# Altium schematic symbol library SL_PowerManagement.SchLib: 18 symbols
Pins are listed as number, name and electrical type; pins without a type are passive.

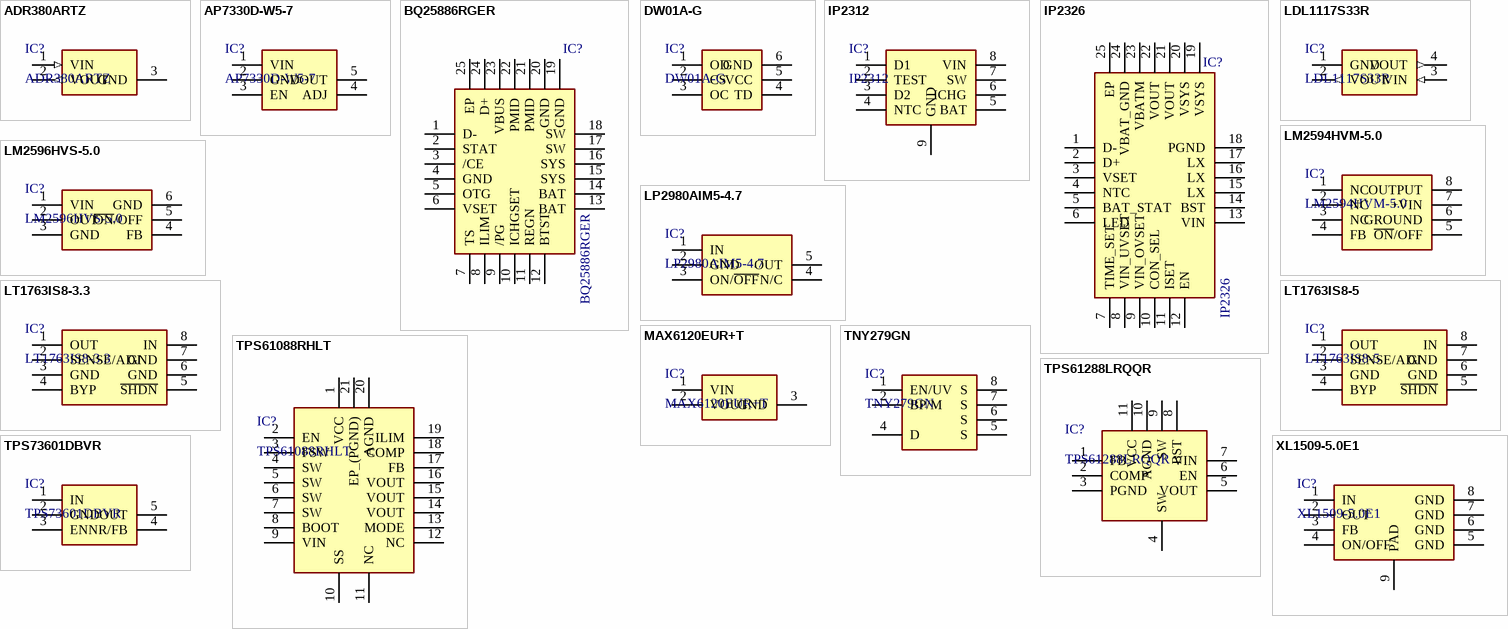
[diagram p0: symbols ADR380ARTZ to XL1509-5.0E1]

## ADR380ARTZ
designator IC?
Integrated Circuit, RVS, In: 2.7-12V, Out: 2.048V, 5mA; Manufacturer_Name: Analog Devices; Manufacturer_Part_Number: ADR380ARTZ-REEL7; Datasheet Link: http://www.analog.com/media/en/technical-documentation/data-sheets/ADR380_381.pdf; Height: 1.12mm; Mouser Part Number: 584-ADR380ARTZ-R7; Mouser Price/Stock: https://www.mouser.co.uk/ProductDetail/Analog-Devices/ADR380ARTZ-REEL7?qs=WIvQP4zGani3pEpMYJ%2Fd2A%3D%3D; Arrow Part Number: ADR380ARTZ-REEL7; Arrow Price/Stock: https://www.arrow.com/en/products/adr380artz-reel7/analog-devices?region=nac
footprint SOT96P237X112-3N
pins: 1 VIN (in), 2 VOUT (out), 3 GND (power)

## AP7330D-W5-7
designator IC?
Integrated Circuit, LDO, In: 1.8-5.5V, Out: 1-4.5V, 0.3A; Manufacturer_Name: Diodes Incorporated; Datasheet Link: https://www.diodes.com//assets/Datasheets/AP7330.pdf; Height: 1.4mm; Manufacturer_Part_Number: AP7330D-W5-7; Mouser Part Number: 621-AP7330D-W5-7; Mouser Price/Stock: https://www.mouser.co.uk/ProductDetail/Diodes-Incorporated/AP7330D-W5-7?qs=W0yvOO0ixfEgWU84Pc6G9Q%3D%3D; Arrow Part Number: AP7330D-W5-7; Arrow Price/Stock: https://www.arrow.com/en/products/ap7330d-w5-7/diodes-incorporated?utm_currency=USD&region=nac
footprint SOT95P285X140-5N
pins: 1 VIN, 2 GND, 3 EN, 4 ADJ, 5 VOUT

## BQ25886RGER
designator IC?
Integrated Circuit, 2 Cell battery charger; Manufacturer_Name: Texas Instruments; Datasheet Link: http://www.ti.com/lit/gpn/BQ25886; Height: 1mm; Manufacturer_Part_Number: BQ25886RGER; Mouser Part Number: 595-BQ25886RGER; Mouser Price/Stock: https://www.mouser.co.uk/ProductDetail/Texas-Instruments/BQ25886RGER?qs=mAH9sUMRCttbI1j7uI64xQ%3D%3D; Arrow Part Number: BQ25886RGER; Arrow Price/Stock: https://www.arrow.com/en/products/bq25886rger/texas-instruments?region=nac
footprint QFN50P400X400X100-25N-D
pins: 1 D-, 2 STAT, 3 /CE, 4 GND, 5 OTG, 6 VSET, 7 TS, 8 ILIM, 9 /PG, 10 ICHGSET, 11 REGN, 12 BTST, 13 BAT, 14 BAT, 15 SYS, 16 SYS, 17 SW, 18 SW, 19 GND, 20 GND, 21 PMID, 22 PMID, 23 VBUS, 24 D+, 25 EP

## DW01A-G
designator IC?
Integrated Circuit; Manufacturer_Name: Fortune Semiconductor Corporation; Datasheet Link: http://acoptex.com/uploads/DW01A.pdf; Height: 1.35mm; Manufacturer_Part_Number: DW01A-G
footprint SOT95P280X135-6N
pins: 1 OD, 2 CS, 3 OC, 4 TD, 5 VCC, 6 GND

## IP2312
designator IC?
Integrated Circuit, 1 Cell battery charger; Manufacturer_Name: INJOINIC; Datasheet Link: http://www.injoinic.com/wwwroot/uploads/files/20230913/623558e526750db62e25e32800f94a6b.pdf; Height: 1.65mm; Manufacturer_Part_Number: IP2312
footprint SOIC127P600X165-9N
pins: 1 D1, 2 TEST, 3 D2, 4 NTC, 5 BAT, 6 ICHG, 7 SW, 8 VIN, 9 GND

## IP2326
designator IC?
Integrated Circuit, 2/3 Cell battery charger; Manufacturer_Name: Texas Instruments; Datasheet Link: https://done.land/assets/files/ip2326_datasheet.pdf; Height: 1mm; Manufacturer_Part_Number: IP2326; Arrow Part Number: IP2326
footprint QFN50P400X400X100-25N-D
pins: 1 D-, 2 D+, 3 VSET, 4 NTC, 5 BAT_STAT, 6 LED, 7 TIME_SET, 8 VIN_UVSET, 9 VIN_OVSET, 10 CON_SEL, 11 ISET, 12 EN, 13 VIN, 14 BST, 15 LX, 16 LX, 17 LX, 18 PGND, 19 VSYS, 20 VSYS, 21 VOUT, 22 VOUT, 23 VBATM, 24 VBAT_GND, 25 EP

## LDL1117S33R
designator IC?
Integrated Circuit, LDO, In: 2.5-18V, Out: 3.3V, 1.2A; Manufacturer_Name: STMicroelectronics; Datasheet Link: https://www.st.com/resource/en/datasheet/ldl1117.pdf; Height: 1.8mm; Manufacturer_Part_Number: LDL1117S33R; Mouser Part Number: 511-LDL1117S33R; Mouser Price/Stock: https://www.mouser.co.uk/ProductDetail/STMicroelectronics/LDL1117S33R?qs=AQlKX63v8Rt9Bf6AWSrbFg%3D%3D; Arrow Part Number: LDL1117S33R; Arrow Price/Stock: https://www.arrow.com/en/products/ldl1117s33r/stmicroelectronics?utm_currency=USD&region=europe
footprint SOT230P700X180-4N
pins: 1 GND (power), 2 VOUT (out), 3 VIN (in), 4 VOUT (out)

## LM2594HVM-5.0
designator IC?
Texas Instruments, DC/DC - Step Down, In: 4.5-57V, Out: 5V, 1.5A; Datasheet Link: http://www.ti.com/lit/ds/symlink/lm2594.pdf; Height: 1.75mm; Manufacturer_Name: Texas Instruments; Manufacturer_Part_Number: LM2594HVM-5.0; Mouser Part Number: 926-LM2594HVM-50; Mouser Price/Stock: https://www.mouser.co.uk/ProductDetail/Texas-Instruments/LM2594HVM-5.0?qs=X1J7HmVL2ZHFA3zm6Fekzg%3D%3D; Arrow Part Number: LM2594HVM-5.0; Arrow Price/Stock: https://www.arrow.com/en/products/lm2594hvm-5.0/texas-instruments?region=nac
footprint SOIC127P600X175-8N
pins: 1 NC, 2 NC, 3 NC, 4 FB, 5 ~{ON}/OFF, 6 GROUND, 7 +VIN, 8 OUTPUT

## LM2596HVS-5.0
designator IC?
Texas Instruments, DC/DC - Step Down, In: 7-57V, Out: 5V, 3A; Datasheet Link: https://www.ti.com/lit/ds/symlink/lm2596.pdf; Manufacturer_Name: Texas Instruments; Manufacturer_Part_Number: LM2596HVS-5.0; Arrow Part Number: LM2596HVS-5.0
footprint KTT0005B
pins: 1 VIN, 2 OUT, 3 GND, 4 FB, 5 ~{ON}/OFF, 6 GND

## LP2980AIM5-4.7
designator IC?
Texas Instruments, LDO, In: 2.1-16V, Out: 4.7V, 50mA; Manufacturer_Part_Number: LP2980AIM5-4.7/NOPB; Datasheet Link: http://www.ti.com/lit/gpn/lp2980-n; Height: 1.45mm; Manufacturer_Name: Texas Instruments; Mouser Part Number: 926-LP2980AIM547NOPB; Mouser Price/Stock: https://www.mouser.co.uk/ProductDetail/Texas-Instruments/LP2980AIM5-4.7-NOPB?qs=7lkVKPoqpbZHjA%252BU15TD1A%3D%3D; Arrow Part Number: LP2980AIM5-4.7/NOPB; Arrow Price/Stock: https://www.arrow.com/en/products/lp2980aim5-4.7nopb/texas-instruments?region=nac
footprint SOT95P280X145-5N
pins: 1 IN, 2 GND, 3 ON/~{OFF}, 4 N/C, 5 OUT

## LT1763IS8-3.3
designator IC?
Integrated Circuit, LDO, In: 1.8-20V, Out: 3.3V, 0.5A; Manufacturer_Name: Analog Devices; Manufacturer_Part_Number: LT1763IS8-3.3#PBF; Datasheet Link: https://static.chipdip.ru/lib/489/DOC018489394.pdf; Height: 1.752mm; Mouser Part Number: 584-LT1763IS8-3.3PBF; Mouser Price/Stock: https://www.mouser.co.uk/ProductDetail/Analog-Devices/LT1763IS8-3.3PBF?qs=ytflclh7QUXoCHefIThm8A%3D%3D; Arrow Part Number: LT1763IS8-3.3#PBF; Arrow Price/Stock: https://www.arrow.com/en/products/lt1763is8-3.3pbf/analog-devices?utm_currency=USD&region=europe
footprint SOIC127P599X175-8N
pins: 1 OUT, 2 SENSE/ADJ, 3 GND, 4 BYP, 5 ~{SHDN}, 6 GND, 7 GND, 8 IN

## LT1763IS8-5
designator IC?
Integrated Circuit, LDO, In: 1.8-20V, Out: 5V, 0.5A; Manufacturer_Name: Analog Devices; Manufacturer_Part_Number: LT1763IS8-5#PBF; Datasheet Link: https://static.chipdip.ru/lib/489/DOC018489394.pdf; Height: 1.752mm; Mouser Part Number: 584-LT1763IS8-5PBF; Mouser Price/Stock: https://www.mouser.co.uk/ProductDetail/Analog-Devices/LT1763IS8-5PBF?qs=ytflclh7QUVNPWn21%2FzPPw%3D%3D; Arrow Part Number: LT1763IS8-5#PBF; Arrow Price/Stock: https://www.arrow.com/en/products/lt1763is8-5pbf_1/analog-devices.html
footprint SOIC127P599X175-8N
pins: 1 OUT, 2 SENSE/ADJ, 3 GND, 4 BYP, 5 ~{SHDN}, 6 GND, 7 GND, 8 IN

## MAX6120EUR+T
designator IC?
Integrated Circuit, RVS, In: 2.4-11V, Out: 1.2V, 70uA; Manufacturer_Name: Analog Devices; Datasheet Link: https://datasheets.maximintegrated.com/en/ds/MAX6120.pdf; Height: 1.194mm; Manufacturer_Part_Number: MAX6120EUR+T; Mouser Part Number: 700-MAX6120EURT; Mouser Price/Stock: https://www.mouser.co.uk/ProductDetail/Analog-Devices-Maxim-Integrated/MAX6120EUR%2bT?qs=9Cj2FLRihcNgNTXQlEZciQ%3D%3D; Arrow Part Number: MAX6120EUR+T; Arrow Price/Stock: https://www.arrow.com/en/products/max6120eurt/maxim-integrated?region=nac
footprint SOT95P229X119-3N
pins: 1 VIN, 2 VOUT, 3 GND

## TNY279GN
designator IC?
Integrated Circuit, AC/DC, 22W, In: 85-265, Out: 12V, 1A; Manufacturer_Name: Power Integrations; Datasheet Link: https://static.chipdip.ru/lib/046/DOC003046710.pdf; Height: 3.98mm; Manufacturer_Part_Number: TNY279GN; Mouser Part Number: 869-TNY279GN; Mouser Price/Stock: https://eu.mouser.com/ProductDetail/Power-Integrations/TNY279GN?qs=%252Bk6%2F5FB6qrnYZYEObbBn9g%3D%3D
footprint TNY274_280GN
pins: 1 EN/UV, 2 BP/M, 4 D, 5 S, 6 S, 7 S, 8 S

## TPS61088RHLT
designator IC?
Integrated Circuit, DC/DC - Boost Conv, In: 2.7-12V, Out: 4.5-12.6V, 10A; Manufacturer_Name: Texas Instruments; Datasheet Link: http://www.ti.com/lit/ds/symlink/tps61088.pdf; Height: 1mm; Manufacturer_Part_Number: TPS61088RHLT; Mouser Part Number: 595-TPS61088RHLT; Mouser Price/Stock: https://www.mouser.co.uk/ProductDetail/Texas-Instruments/TPS61088RHLT?qs=MiqG6Kq1qKOeAwvWtl5eUw%3D%3D; Arrow Part Number: TPS61088RHLT; Arrow Price/Stock: https://www.arrow.com/en/products/tps61088rhlt/texas-instruments.html?utm_currency=USD&region=nac
footprint BQ24031IRHLRQ1
pins: 1 VCC, 2 EN, 3 FSW, 4 SW, 5 SW, 6 SW, 7 SW, 8 BOOT, 9 VIN, 10 SS, 11 NC, 12 NC, 13 MODE, 14 VOUT, 15 VOUT, 16 VOUT, 17 FB, 18 COMP, 19 ILIM, 20 AGND, 21 EP_(PGND)

## TPS61288LRQQR
designator IC?
Integrated Circuit, DC/DC - Boost Conv, In: 2.0-18V, Out: 4.5-18V, 15A; Manufacturer_Name: Texas Instruments; Datasheet Link: https://www.ti.com/lit/ml/mpqf579/mpqf579.pdf?ts=1697461742540&ref_url=https%253A%252F%252Fwww.ti.com%252Fproduct%252FTPS61288%252Fpart-details%252FTPS61288LRQQR; Height: 1mm; Manufacturer_Part_Number: TPS61288LRQQR; Mouser Part Number: 595-TPS61288LRQQR; Mouser Price/Stock: https://www.mouser.co.uk/ProductDetail/Texas-Instruments/TPS61288LRQQR?qs=doiCPypUmgHcBtLncJEgGg%3D%3D; Arrow Part Number: TPS61288LRQQR; Arrow Price/Stock: https://www.arrow.com/en/products/tps61288lrqqr/texas-instruments?utm_currency=USD&region=nac
footprint PTPS61288RQQR
pins: 1 FB, 2 COMP, 3 PGND, 4 SW, 5 VOUT, 6 EN, 7 VIN, 8 BST, 9 SW, 10 AGND, 11 VCC

## TPS73601DBVR
designator IC?
Integrated Circuit, LDO, In: 1.2-5.5V, Out: 1.2-4.3V, 0.4A; Manufacturer_Name: Texas Instruments; Datasheet Link: http://www.ti.com/lit/gpn/tps736; Height: 1.45mm; Manufacturer_Part_Number: TPS73601DBVR; Mouser Part Number: 595-TPS73601DBVR; Mouser Price/Stock: https://www.mouser.co.uk/ProductDetail/Texas-Instruments/TPS73601DBVR?qs=6zVL%252ByCp0mrv%2FJsEMkcDEg%3D%3D; Arrow Part Number: TPS73601DBVR; Arrow Price/Stock: https://www.arrow.com/en/products/tps73601dbvr/texas-instruments?utm_currency=USD&region=nac
footprint SOT95P280X145-5N
pins: 1 IN, 2 GND, 3 EN, 4 NR/FB, 5 OUT

## XL1509-5.0E1
designator IC?
Integrated Circuit, DC/DC - Step Down, In: 7-40V, Out: 5V, 2A; Manufacturer_Name: XLSEMI; Datasheet Link: https://datasheet.lcsc.com/szlcsc/XLSEMI-XL1509-5-0E1_C61063.pdf; Height: 1.75mm; Manufacturer_Part_Number: XL1509-5.0E1
footprint SOIC127P600X175-9N
pins: 1 IN, 2 OUT, 3 FB, 4 ON/OFF, 5 GND, 6 GND, 7 GND, 8 GND, 9 PAD